# Altium integrated library sEMG_lib.IntLib: 2 symbols
Pins are listed as number, name and electrical type; pins without a type are passive.

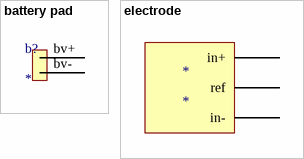
[diagram p0: symbols battery pad to electrode]

## battery pad
designator b?
footprint bat_pads
pins: bv+, bv-

## electrode
designator *
footprint electrode
pins: in+, in-, ref